# Altium footprint library RESC6332X70N.PcbLib: 1 footprints
Each footprint in its own frame and in the unit in brackets; x right, y up, seen from the top. Pads: shape width x height; smd on the part's side, far side on the other; paste and mask are expansions set on the pad; w line width, h text height; cw(c..) or ccw(c..) is an arc to the next point about the centre after c.
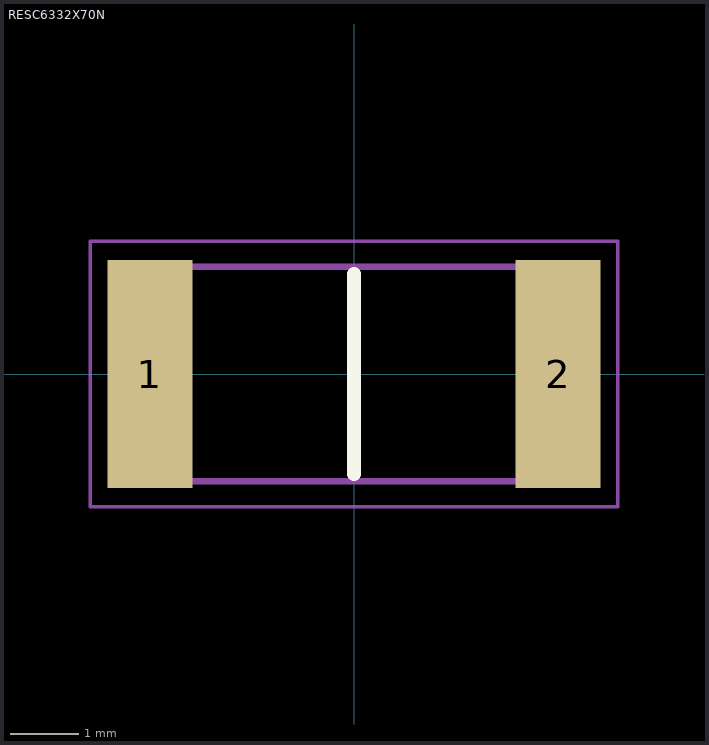
[diagram p0: the footprint, top view; thin cyan lines are the x and y axes]

## RESC6332X70N [mm]
pads (2):
  rect 1.25x3.35 smd: 1(-3,0) 2(3,0)
Top Overlay:
  lines w0.2: 0,-1.475 0,1.475
Mechanical 15:
  lines w0.1: -3.15,-1.575 3.15,-1.575 3.15,1.575 -3.15,1.575 -3.15,-1.575
Mechanical 20:
  lines w0.05: -3.875,-1.95 3.875,-1.95 3.875,1.95 -3.875,1.95 -3.875,-1.95